# EAGLE library part MC10ELT20DG (library ON Semiconductor_By_element14_Batch_1)
5V TTL to Differential PECL Translator
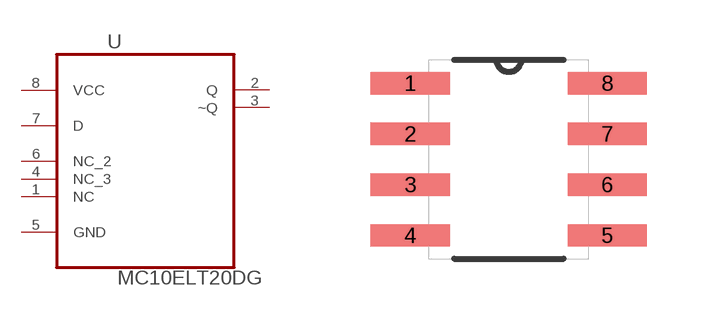
[diagram p165: symbol with the pads of SOIC127P600X175-8N; footprint SOIC127P600X175-8N]

Designator prefix U

## MC10ELT20DG (MPN: MC10ELT20DG; OC_FARNELL: 1607878; OC_NEWARK: 88H4693; P1I: o; PACKAGE: SOIC-8; SUPPLIER: ON Semiconductor)  [SOIC127P600X175-8N]
1  NC  nc
2  Q  out
3  ~Q  out
4  NC_3  nc
5  GND  pas
6  NC_2  nc
7  D  in
8  VCC  pwr

## Footprint SOIC127P600X175-8N (pad centres in mm)
smd 1.981 x 0.559: 1 -2.464,1.905; 2 -2.464,0.635; 3 -2.464,-0.635; 4 -2.464,-1.905; 5 2.464,-1.905; 6 2.464,-0.635; 7 2.464,0.635; 8 2.464,1.905